# Altium footprint library Mechanical.PcbLib: 61 footprints (part 3 of 4)
Each footprint in its own frame and in the unit in brackets; x right, y up, seen from the top. Pads: shape width x height; smd on the part's side, far side on the other; paste and mask are expansions set on the pad; w line width, h text height; cw(c..) or ccw(c..) is an arc to the next point about the centre after c.
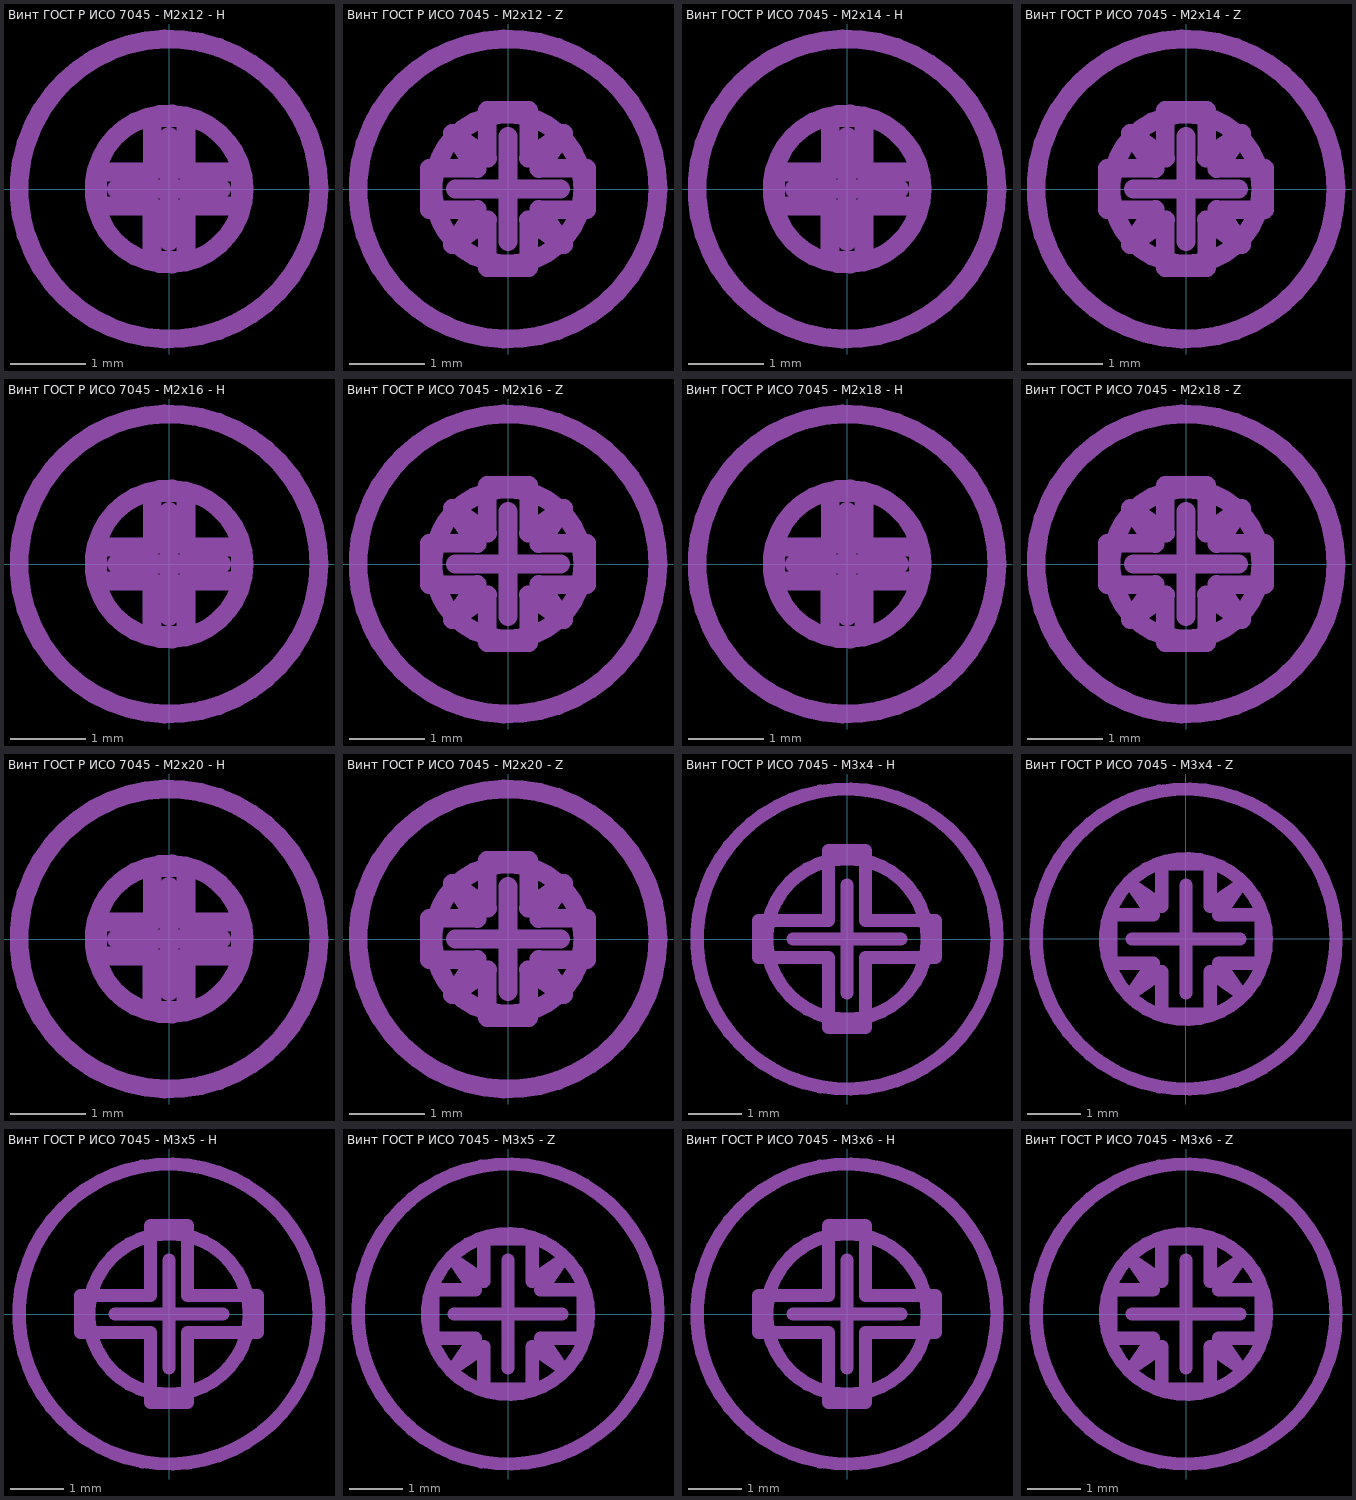
[diagram p2: the footprints below, top view; thin cyan lines are the x and y axes]

## Винт ГОСТ Р ИСО 7045 - М2x12 - H [mm] "Винт со скругленной головкой ГОСТ Р ИСО 7045 - М2x12 - H"
height 1.6
Top Assembly:
  circle w0.25: c0,0 r2
  lines w0.25: -0.95,-0.225 -0.95,0.225 -0.225,0.225 -0.225,0.95 0.225,0.95 0.225,0.225 0.95,0.225 0.95,-0.225 0.225,-0.225 0.225,-0.95 -0.225,-0.95 -0.225,-0.225 -0.95,-0.225
Top Mech:
  circle w0.25: c0,0 r1
  lines w0.25: -0.7,0 0.7,0 ; 0,-0.7 0,0.7
3D body "ГОСТ Р ИСО 7045 - M2x12 - H.STEP": height 1.6, standoff -11.99, extent -2,-2 2,2

## Винт ГОСТ Р ИСО 7045 - М2x12 - Z [mm] "Винт со скругленной головкой ГОСТ Р ИСО 7045 - М2x12 - Z"
height 1.6
Top Assembly:
  circle w0.25: c0,0 r2
  lines w0.25: -0.411,-0.275 -1.05,-0.275 -1.05,0.275 -0.411,0.275 ; -0.411,-0.269 -0.742,-0.742 -0.269,-0.411 ; -0.411,0.269 -0.742,0.742 -0.269,0.411 ; -0.275,-0.411 -0.275,-1.05 0.275,-1.05 0.275,-0.411 ; -0.275,0.411 -0.275,1.05 0.275,1.05 0.275,0.411 ; 0.269,-0.411 0.742,-0.742 0.411,-0.269 ; 0.269,0.411 0.742,0.742 0.411,0.269 ; 0.411,-0.275 1.05,-0.275 1.05,0.275 0.411,0.275
Top Mech:
  circle w0.25: c0,0 r1
  lines w0.25: -0.7,0 0.7,0 ; 0,-0.7 0,0.7
3D body "ГОСТ Р ИСО 7045 - M2x12 - Z.STEP": height 1.57, standoff -11.99, extent -2,-2 2,2

## Винт ГОСТ Р ИСО 7045 - М2x14 - H [mm] "Винт со скругленной головкой ГОСТ Р ИСО 7045 - М2x14 - H"
height 1.6
Top Assembly:
  circle w0.25: c0,0 r2
  lines w0.25: -0.95,-0.225 -0.225,-0.225 -0.225,-0.95 0.225,-0.95 0.225,-0.225 0.95,-0.225 0.95,0.225 0.225,0.225 0.225,0.95 -0.225,0.95 -0.225,0.225 -0.95,0.225 -0.95,-0.225
Top Mech:
  circle w0.25: c0,0 r1
  lines w0.25: -0.7,0 0.7,0 ; 0,-0.7 0,0.7
3D body "ГОСТ Р ИСО 7045 - M2x14 - H.STEP": height 1.6, standoff -13.99, extent -2,-2 2,2

## Винт ГОСТ Р ИСО 7045 - М2x14 - Z [mm] "Винт со скругленной головкой ГОСТ Р ИСО 7045 - М2x14 - Z"
height 1.6
Top Assembly:
  circle w0.25: c0,0 r2
  lines w0.25: -0.411,-0.275 -1.05,-0.275 -1.05,0.275 -0.411,0.275 ; -0.411,-0.269 -0.742,-0.742 -0.269,-0.411 ; -0.411,0.269 -0.742,0.742 -0.269,0.411 ; -0.275,-0.411 -0.275,-1.05 0.275,-1.05 0.275,-0.411 ; -0.275,0.411 -0.275,1.05 0.275,1.05 0.275,0.411 ; 0.269,-0.411 0.742,-0.742 0.411,-0.269 ; 0.269,0.411 0.742,0.742 0.411,0.269 ; 0.411,-0.275 1.05,-0.275 1.05,0.275 0.411,0.275
Top Mech:
  circle w0.25: c0,0 r1
  lines w0.25: -0.7,0 0.7,0 ; 0,-0.7 0,0.7
3D body "ГОСТ Р ИСО 7045 - M2x14 - Z.STEP": height 1.57, standoff -13.99, extent -2,-2 2,2

## Винт ГОСТ Р ИСО 7045 - М2x16 - H [mm] "Винт со скругленной головкой ГОСТ Р ИСО 7045 - М2x16 - H"
height 1.6
Top Assembly:
  circle w0.25: c0,0 r2
  lines w0.25: -0.95,-0.225 -0.225,-0.225 -0.225,-0.95 0.225,-0.95 0.225,-0.225 0.95,-0.225 0.95,0.225 0.225,0.225 0.225,0.95 -0.225,0.95 -0.225,0.225 -0.95,0.225 -0.95,-0.225
Top Mech:
  circle w0.25: c0,0 r1
  lines w0.25: -0.7,0 0.7,0 ; 0,-0.7 0,0.7
3D body "ГОСТ Р ИСО 7045 - M2x16 - H.STEP": height 1.6, standoff -15.99, extent -2,-2 2,2

## Винт ГОСТ Р ИСО 7045 - М2x16 - Z [mm] "Винт со скругленной головкой ГОСТ Р ИСО 7045 - М2x16 - Z"
height 1.6
Top Assembly:
  circle w0.25: c0,0 r2
  lines w0.25: -0.411,-0.275 -1.05,-0.275 -1.05,0.275 -0.411,0.275 ; -0.411,-0.269 -0.742,-0.742 -0.269,-0.411 ; -0.411,0.269 -0.742,0.742 -0.269,0.411 ; -0.275,-0.411 -0.275,-1.05 0.275,-1.05 0.275,-0.411 ; -0.275,0.411 -0.275,1.05 0.275,1.05 0.275,0.411 ; 0.269,-0.411 0.742,-0.742 0.411,-0.269 ; 0.269,0.411 0.742,0.742 0.411,0.269 ; 0.411,-0.275 1.05,-0.275 1.05,0.275 0.411,0.275
Top Mech:
  circle w0.25: c0,0 r1
  lines w0.25: -0.7,0 0.7,0 ; 0,-0.7 0,0.7
3D body "ГОСТ Р ИСО 7045 - M2x16 - Z.STEP": height 1.57, standoff -15.99, extent -2,-2 2,2

## Винт ГОСТ Р ИСО 7045 - М2x18 - H [mm] "Винт со скругленной головкой ГОСТ Р ИСО 7045 - М2x18 - H"
height 1.6
Top Assembly:
  circle w0.25: c0,0 r2
  lines w0.25: -0.95,-0.225 -0.225,-0.225 -0.225,-0.95 0.225,-0.95 0.225,-0.225 0.95,-0.225 0.95,0.225 0.225,0.225 0.225,0.95 -0.225,0.95 -0.225,0.225 -0.95,0.225 -0.95,-0.225
Top Mech:
  circle w0.25: c0,0 r1
  lines w0.25: -0.7,0 0.7,0 ; 0,-0.7 0,0.7
3D body "ГОСТ Р ИСО 7045 - M2x16 - H.STEP": height 1.6, standoff -15.99, extent -2,-2 2,2

## Винт ГОСТ Р ИСО 7045 - М2x18 - Z [mm] "Винт со скругленной головкой ГОСТ Р ИСО 7045 - М2x18 - Z"
height 1.6
Top Assembly:
  circle w0.25: c0,0 r2
  lines w0.25: -0.411,-0.275 -1.05,-0.275 -1.05,0.275 -0.411,0.275 ; -0.411,-0.269 -0.742,-0.742 -0.269,-0.411 ; -0.411,0.269 -0.742,0.742 -0.269,0.411 ; -0.275,-0.411 -0.275,-1.05 0.275,-1.05 0.275,-0.411 ; -0.275,0.411 -0.275,1.05 0.275,1.05 0.275,0.411 ; 0.269,-0.411 0.742,-0.742 0.411,-0.269 ; 0.269,0.411 0.742,0.742 0.411,0.269 ; 0.411,-0.275 1.05,-0.275 1.05,0.275 0.411,0.275
Top Mech:
  circle w0.25: c0,0 r1
  lines w0.25: -0.7,0 0.7,0 ; 0,-0.7 0,0.7
3D body "ГОСТ Р ИСО 7045 - M2x16 - Z.STEP": height 1.57, standoff -15.99, extent -2,-2 2,2

## Винт ГОСТ Р ИСО 7045 - М2x20 - H [mm] "Винт со скругленной головкой ГОСТ Р ИСО 7045 - М2x20 - H"
height 1.6
Top Assembly:
  circle w0.25: c0,0 r2
  lines w0.25: -0.95,-0.225 -0.95,0.225 -0.225,0.225 -0.225,0.95 0.225,0.95 0.225,0.225 0.95,0.225 0.95,-0.225 0.225,-0.225 0.225,-0.95 -0.225,-0.95 -0.225,-0.225 -0.95,-0.225
Top Mech:
  circle w0.25: c0,0 r1
  lines w0.25: -0.7,0 0.7,0 ; 0,-0.7 0,0.7
3D body "ГОСТ Р ИСО 7045 - M2x20 - H.STEP": height 1.6, standoff -19.99, extent -2,-2 2,2

## Винт ГОСТ Р ИСО 7045 - М2x20 - Z [mm] "Винт со скругленной головкой ГОСТ Р ИСО 7045 - М2x20 - Z"
height 1.6
Top Assembly:
  circle w0.25: c0,0 r2
  lines w0.25: -0.411,-0.275 -1.05,-0.275 -1.05,0.275 -0.411,0.275 ; -0.411,-0.269 -0.742,-0.742 -0.269,-0.411 ; -0.411,0.269 -0.742,0.742 -0.269,0.411 ; -0.275,-0.411 -0.275,-1.05 0.275,-1.05 0.275,-0.411 ; -0.275,0.411 -0.275,1.05 0.275,1.05 0.275,0.411 ; 0.269,-0.411 0.742,-0.742 0.411,-0.269 ; 0.269,0.411 0.742,0.742 0.411,0.269 ; 0.411,-0.275 1.05,-0.275 1.05,0.275 0.411,0.275
Top Mech:
  circle w0.25: c0,0 r1
  lines w0.25: -0.7,0 0.7,0 ; 0,-0.7 0,0.7
3D body "ГОСТ Р ИСО 7045 - M2x20 - Z.STEP": height 1.57, standoff -19.99, extent -2,-2 2,2

## Винт ГОСТ Р ИСО 7045 - М3x4 - H [mm] "Винт со скругленной головкой ГОСТ Р ИСО 7045 - М3x4 - H"
height 2.4
Top Assembly:
  circle w0.25: c0,0 r2.8
  lines w0.25: -1.65,-0.345 -0.345,-0.345 -0.345,-1.65 0.345,-1.65 0.345,-0.345 1.65,-0.345 1.65,0.345 0.345,0.345 0.345,1.65 -0.345,1.65 -0.345,0.345 -1.65,0.345 -1.65,-0.345
Top Mech:
  circle w0.25: c0,0 r1.5
  lines w0.25: -1,0 1,0 ; 0,-1 0,1
3D body "ГОСТ Р ИСО 7045 - M3x4 - H.STEP": height 2.39, standoff -3.99, extent -2.8,-2.8 2.8,2.8

## Винт ГОСТ Р ИСО 7045 - М3x4 - Z [mm] "Винт со скругленной головкой ГОСТ Р ИСО 7045 - М3x4 - Z"
height 2.4
Top Assembly:
  circle w0.25: c0,0 r2.8
  lines w0.25: -0.611,0.449 -0.99,0.99 -0.449,0.611 ; -0.61,0.45 -1.4,0.45 -1.4,-0.45 -0.61,-0.45 -0.99,-0.99 -0.449,-0.611 -0.45,-1.4 0.45,-1.4 0.45,-0.61 ; -0.45,0.61 -0.45,1.4 0.45,1.4 0.45,0.61 ; 0.449,0.611 0.99,0.99 0.611,0.449 ; 0.449,-0.611 0.99,-0.99 0.611,-0.449 ; 0.61,-0.45 1.4,-0.45 1.4,0.45 0.61,0.45
Top Mech:
  circle w0.25: c0,0 r1.5
  lines w0.25: -1,0 1,0 ; 0,-1 0,1
3D body "ГОСТ Р ИСО 7045 - M3x4 - Z.STEP": height 2.35, standoff -3.99, extent -2.8,-2.8 2.8,2.8

## Винт ГОСТ Р ИСО 7045 - М3x5 - H [mm] "Винт со скругленной головкой ГОСТ Р ИСО 7045 - М3x5 - H"
height 2.4
Top Assembly:
  circle w0.25: c0,0 r2.8
  lines w0.25: -1.65,-0.345 -1.65,0.345 -0.345,0.345 -0.345,1.65 0.345,1.65 0.345,0.345 1.65,0.345 1.65,-0.345 0.345,-0.345 0.345,-1.65 -0.345,-1.65 -0.345,-0.345 -1.65,-0.345
Top Mech:
  circle w0.25: c0,0 r1.5
  lines w0.25: -1,0 1,0 ; 0,-1 0,1
3D body "ГОСТ Р ИСО 7045 - M3x5 - H.STEP": height 2.39, standoff -4.99, extent -2.8,-2.8 2.8,2.8

## Винт ГОСТ Р ИСО 7045 - М3x5 - Z [mm] "Винт со скругленной головкой ГОСТ Р ИСО 7045 - М3x5 - Z"
height 2.4
Top Assembly:
  circle w0.25: c0,0 r2.8
  lines w0.25: -0.611,0.449 -0.99,0.99 -0.449,0.611 ; -0.61,0.45 -1.4,0.45 -1.4,-0.45 -0.61,-0.45 -0.99,-0.99 -0.449,-0.611 -0.45,-1.4 0.45,-1.4 0.45,-0.61 ; -0.45,0.61 -0.45,1.4 0.45,1.4 0.45,0.61 ; 0.449,0.611 0.99,0.99 0.611,0.449 ; 0.449,-0.611 0.99,-0.99 0.611,-0.449 ; 0.61,-0.45 1.4,-0.45 1.4,0.45 0.61,0.45
Top Mech:
  circle w0.25: c0,0 r1.5
  lines w0.25: -1,0 1,0 ; 0,-1 0,1
3D body "ГОСТ Р ИСО 7045 - M3x5 - Z.STEP": height 2.35, standoff -4.99, extent -2.8,-2.8 2.8,2.8

## Винт ГОСТ Р ИСО 7045 - М3x6 - H [mm] "Винт со скругленной головкой ГОСТ Р ИСО 7045 - М3x6 - H"
height 2.4
Top Assembly:
  circle w0.25: c0,0 r2.8
  lines w0.25: -1.65,-0.345 -1.65,0.345 -0.345,0.345 -0.345,1.65 0.345,1.65 0.345,0.345 1.65,0.345 1.65,-0.345 0.345,-0.345 0.345,-1.65 -0.345,-1.65 -0.345,-0.345 -1.65,-0.345
Top Mech:
  circle w0.25: c0,0 r1.5
  lines w0.25: -1,0 1,0 ; 0,-1 0,1
3D body "ГОСТ Р ИСО 7045 - M3x6 - H.STEP": height 2.39, standoff -5.99, extent -2.8,-2.8 2.8,2.8

## Винт ГОСТ Р ИСО 7045 - М3x6 - Z [mm] "Винт со скругленной головкой ГОСТ Р ИСО 7045 - М3x6 - Z"
height 2.4
Top Assembly:
  circle w0.25: c0,0 r2.8
  lines w0.25: -0.611,0.449 -0.99,0.99 -0.449,0.611 ; -0.61,0.45 -1.4,0.45 -1.4,-0.45 -0.61,-0.45 -0.99,-0.99 -0.449,-0.611 -0.45,-1.4 0.45,-1.4 0.45,-0.61 ; -0.45,0.61 -0.45,1.4 0.45,1.4 0.45,0.61 ; 0.449,0.611 0.99,0.99 0.611,0.449 ; 0.449,-0.611 0.99,-0.99 0.611,-0.449 ; 0.61,-0.45 1.4,-0.45 1.4,0.45 0.61,0.45
Top Mech:
  circle w0.25: c0,0 r1.5
  lines w0.25: -1,0 1,0 ; 0,-1 0,1
3D body "ГОСТ Р ИСО 7045 - M3x6 - Z.STEP": height 2.35, standoff -5.99, extent -2.8,-2.8 2.8,2.8